# Altium schematic symbol library sma_connector.SchLib: 1 symbol
Pins are listed as number, name and electrical type; pins without a type are passive.

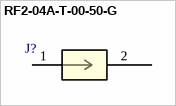
[diagram p0: symbol RF2-04A-T-00-50-G]

## RF2-04A-T-00-50-G
designator J?  (value not drawn)
No Description Available; Mfr_Name: ADAM TECHNOLOGIES INC; Copyright: Copyright (C) 2022 Ultra Librarian. All rights reserved.; Manufacturer_Part_Number: RF2-04A-T-00-50-G; Digi-Key_Part_Number_1: 2057-RF2-04A-T-00-50-G-ND; RefDes: RefDes; Type: DEV
footprint CONN_RF2-04A-T-00-50-G_ADM
pins: 1, 2 "GND"